# Altium footprint library SI5330G-B00219-GM.PcbLib: 2 footprints
Each footprint in its own frame and in the unit in brackets; x right, y up, seen from the top. Pads: shape width x height; smd on the part's side, far side on the other; paste and mask are expansions set on the pad; w line width, h text height; cw(c..) or ccw(c..) is an arc to the next point about the centre after c.
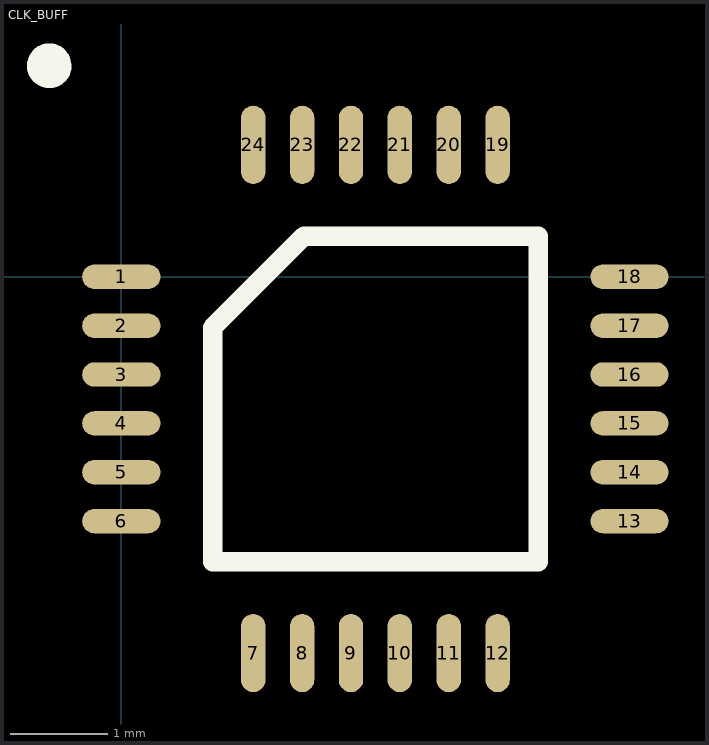
[diagram p0: the footprints below, top view; thin cyan lines are the x and y axes]

## CLK_BUFF [mm]
height 0.85
pads (24):
  oval 0.8x0.25 smd: 1(0,0) 2(0,-0.5) 3(0,-1) 4(0,-1.5) 5(0,-2) 6(0,-2.5) 13(5.2,-2.5) 14(5.2,-2) 15(5.2,-1.5) 16(5.2,-1) 17(5.2,-0.5) 18(5.2,0)
  oval 0.25x0.8 smd: 7(1.35,-3.85) 8(1.85,-3.85) 9(2.35,-3.85) 10(2.85,-3.85) 11(3.35,-3.85) 12(3.85,-3.85) 19(3.85,1.35) 20(3.35,1.35) 21(2.85,1.35) 22(2.35,1.35) 23(1.85,1.35) 24(1.35,1.35)
Top Overlay:
  lines w0.2: 0.935,-2.915 0.935,-0.52 1.87,0.415 4.265,0.415 4.265,-2.915 0.935,-2.915
  lines w0.254: -0.646,2.204 ccw(c-0.737,2.159) -0.635,2.159
3D body: height 0.85, standoff 0, extent -0.502,-4.352 5.702,1.852

## PCBComponent_1 [mm]